# Altium footprint library TruthEar.PcbLib: 24 footprints (part 1 of 2)
Each footprint in its own frame and in the unit in brackets; x right, y up, seen from the top. Pads: shape width x height; smd on the part's side, far side on the other; paste and mask are expansions set on the pad; w line width, h text height; cw(c..) or ccw(c..) is an arc to the next point about the centre after c.
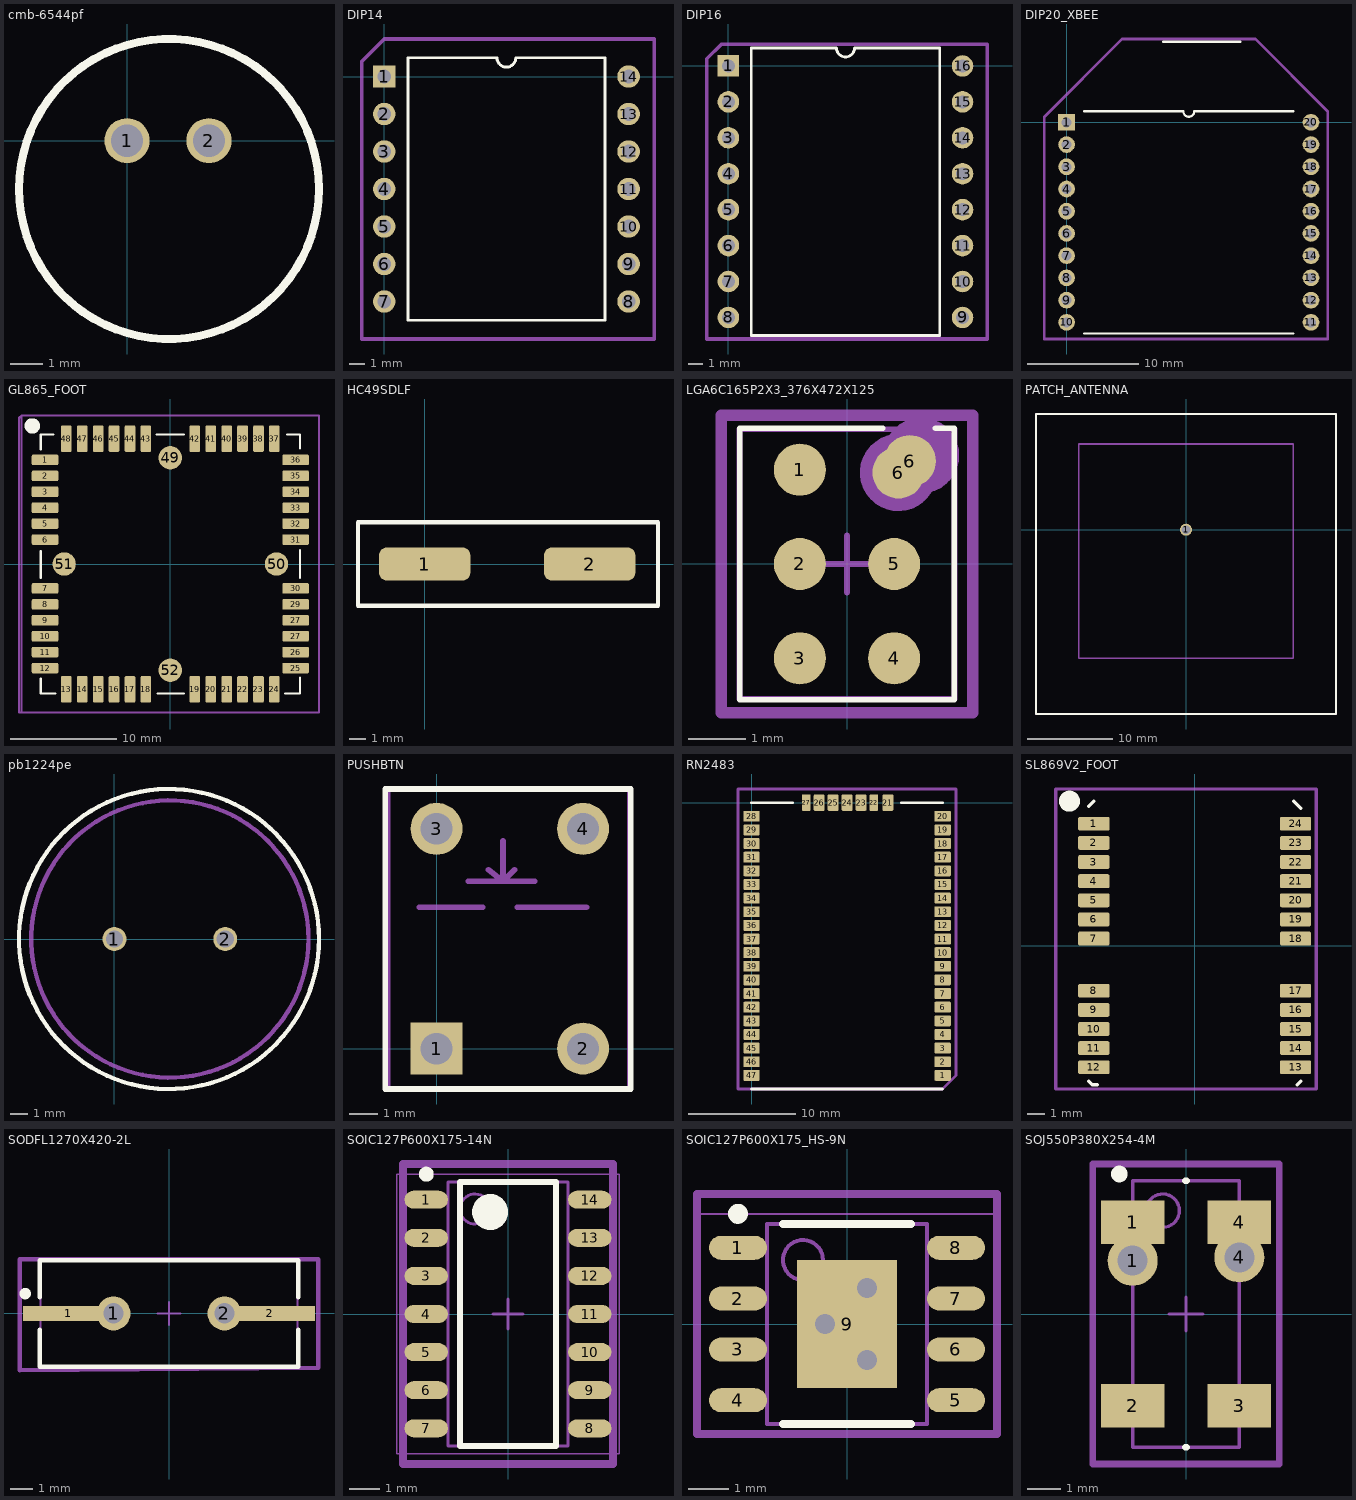
[diagram p0: the footprints below, top view; thin cyan lines are the x and y axes]

## cmb-6544pf [mm]
pads (2):
  round 1.4 hole 1: 1(0,0) 2(2.54,0)
Top Overlay:
  circle w0.254: c1.3,-1.5 r4.653
3D body "cmb-6544pf.stp": height 7, standoff -4.7, extent -3.4,-6.2 6,3.2

## DIP14 [mm]
pads (14):
  rect 1.5x1.5 hole 0.9: 1(0,0)
  round 1.5 hole 0.9: 2(0,-2.5) 3(0,-5) 4(0,-7.5) 5(0,-10) 6(0,-12.5) 7(0,-15) 8(16.29,-15) 9(16.29,-12.5) 10(16.29,-10) 11(16.29,-7.5) 12(16.29,-5) 13(16.29,-2.5) 14(16.29,0)
Top Overlay:
  lines w0.2: 1.585,-16.25 1.585,1.25 7.52,1.25 ccw(c8.145,1.25) 8.77,1.25 14.705,1.25 14.705,-16.25 1.585,-16.25
Mechanical 29:
  lines w0.254: -1.5,-17.5 18,-17.5 18,2.5 0,2.5 -1.5,1 -1.5,-17.5
  text ".Comment" at 8.5,-13.5 h1.52

## DIP16 [mm]
pads (16):
  rect 1.5x1.5 hole 0.9: 1(0,0)
  round 1.5 hole 0.9: 2(0,-2.5) 3(0,-5) 4(0,-7.5) 5(0,-10) 6(0,-12.5) 7(0,-15) 8(0,-17.5) 9(16.29,-17.5) 10(16.29,-15) 11(16.29,-12.5) 12(16.29,-10) 13(16.29,-7.5) 14(16.29,-5) 15(16.29,-2.5) 16(16.29,0)
Top Overlay:
  lines w0.2: 1.585,-18.75 1.585,1.25 7.52,1.25 ccw(c8.145,1.25) 8.77,1.25 14.705,1.25 14.705,-18.75 1.585,-18.75
Mechanical 29:
  lines w0.254: -1.5,-19 -1.5,0.5 -0.5,1.5 18,1.5 18,-19 -1.5,-19
  text ".Comment" at 8.5,-14.5 h1.52

## DIP20_XBEE [mm]
pads (20):
  rect 1.5x1.5 hole 0.9: 1(0,0)
  round 1.5 hole 0.9: 2(0,-2) 3(0,-4) 4(0,-6) 5(0,-8) 6(0,-10) 7(0,-12) 8(0,-14) 9(0,-16) 10(0,-18) 11(22,-18) 12(22,-16) 13(22,-14) 14(22,-12) 15(22,-10) 16(22,-8) 17(22,-6) 18(22,-4) 19(22,-2) 20(22,0)
Top Overlay:
  lines w0.2: 1.585,-19 20.415,-19 ; 1.585,1 10.5,1 ccw(c11,1) 11.5,1 20.415,1
  lines w0.254: 8.725,7.25 15.625,7.25
Mechanical 29:
  lines w0.254: -2,-19.5 -1.5,-19.5 23.5,-19.5 23.5,1 17,7.5 5,7.5 -2,0.5 -2,-19.5
  text ".Comment" at 11.5,-14 h1.52

## GL865_FOOT [mm]
pads (52):
  rrect25% 2.5x1 smd: 1(-11.8,9.8) 2(-11.8,8.3) 3(-11.8,6.8) 4(-11.8,5.3) 5(-11.8,3.8) 6(-11.8,2.3) 7(-11.8,-2.3) 8(-11.8,-3.8) 9(-11.8,-5.3) 10(-11.8,-6.8) 11(-11.8,-8.3) 12(-11.8,-9.8) 25(11.8,-9.8) 26(11.8,-8.3) 27(11.8,-6.8) 27(11.8,-5.3) 29(11.8,-3.8) 30(11.8,-2.3) 31(11.8,2.3) 32(11.8,3.8) 33(11.8,5.3) 34(11.8,6.8) 35(11.8,8.3) 36(11.8,9.8)
  rrect25% 1x2.5 smd: 13(-9.8,-11.8) 14(-8.3,-11.8) 15(-6.8,-11.8) 16(-5.3,-11.8) 17(-3.8,-11.8) 18(-2.3,-11.8) 19(2.3,-11.8) 20(3.8,-11.8) 21(5.3,-11.8) 22(6.8,-11.8) 23(8.3,-11.8) 24(9.8,-11.8) 37(9.8,11.8) 38(8.3,11.8) 39(6.8,11.8) 40(5.3,11.8) 41(3.8,11.8) 42(2.3,11.8) 43(-2.3,11.8) 44(-3.8,11.8) 45(-5.3,11.8) 46(-6.8,11.8) 47(-8.3,11.8) 48(-9.8,11.8)
  round 2.2 smd: 49(0,10) 50(10,0) 51(-10,0) 52(0,-10)
Top Overlay:
  circle w1: c-13,13 r0.224
  lines w0.2: -12.2,-10.8 -12.2,-12.2 -10.8,-12.2 ; -12.2,-1.3 -12.2,1.2 ; -12.2,10.8 -12.2,12.2 -11,12.2 ; -1.3,12.2 1.3,12.2 ; -1.2,-12.2 1.3,-12.2 ; 10.8,-12.2 12.2,-12.2 12.2,-10.7 ; 11,12.2 12.2,12.2 12.2,10.9 ; 12.2,-1.3 12.2,1.3
Mechanical 15:
  lines w0.2: -14,-14 14,-14 14,14 -14,14 -14,-14
Mechanical 29:
  lines w0.2: -14.25,-14 14,-14 14,14 -14,14 -14.25,13.75 -14.25,-14
  text ".Comment" at -8.75,3.5 h0.8
3D body "GL865.STEP": height 2.9, standoff 0.1, extent -12.2,-12.2 12.2,12.2

## HC49SDLF [mm]
pads (2):
  rrect50% 5.5x2 smd: 1(0,0) 2(9.9,0)
Top Overlay:
  lines w0.254: -4,-2.5 14,-2.5 14,2.5 -4,2.5 -4,-2.5

## LGA6C165P2X3_376X472X125 [mm] "LGA, 6-Leads, Body 3,76x4,72mmx1,25mm, Pitch 1,65mm"
height 1.25
pads (7):
  round 0.91 smd: 1(-0.825,1.65) 2(-0.825,0) 3(-0.825,-1.65) 4(0.825,-1.65) 5(0.825,0) 6(0.9,1.6) 6(1.1,1.8)
Top Overlay:
  lines w0.1: 0.625,2.375 -1.875,2.375 -1.875,-2.375 1.875,-2.375 1.875,2.375 1.55,2.375
Mechanical 13:
  lines w0.1: -1.88,-2.36 1.88,-2.36 1.88,2.36 -1.88,2.36 -1.88,-2.36
Mechanical 15:
  lines w0.05: -2.15,-2.625 2.15,-2.625 2.15,2.625 -2.15,2.625 -2.15,-2.625
  lines w0.1: -0.5,0 0.5,0 ; 0,-0.5 0,0.5
Mechanical 29:
  circle w0.5: c0.9,1.6 r0.424
  circle w0.5: c1.3,1.9 r0.412
  lines w0.2: -2.2,-2.6 2.2,-2.6 2.2,2.6 -2.2,2.6 -2.2,-2.6
  text ".Comment" at 0.3,-2.6 h0.8
  text "1" at -1.7,1.2 h0.8
3D body "LGA6C165P2X3_376X472X125.step": height 1.25, standoff 0, extent -1.905,-2.385 1.905,2.385

## PATCH_ANTENNA [mm] "1 pin"
pads (1):
  round 1.4 hole 1: 1(0,0)
Top Overlay:
  lines w0.2: -17.5,-21.5 -17.5,13.5 17.5,13.5 17.5,-21.5 -17.5,-21.5
Mechanical 29:
  lines w0.2: -17.5,-21.5 17.5,-21.5 17.5,13.5 -17.5,13.5 -17.5,-21.5 ; -12.5,-15 12.5,-15 12.5,10 -12.5,10 -12.5,-15
  text ".Comment" at 0.5,3.5 h0.8
3D body "PATCHANTENNA.STEP": height 4.7, standoff -3.3, extent -12.5,-15 12.5,10

## pb1224pe [mm]
pads (2):
  round 1.4 hole 1: 1(0,0) 2(6.5,0)
Top Overlay:
  circle w0.254: c3.2,0 r8.8
Mechanical 29:
  circle w0.254: c3.25,0 r8.132
  text ".Comment" at -2,-3 h1.52

## PUSHBTN [mm]
pads (4):
  rect 1.8x1.8 hole 1.1: 1(0,0)
  round 1.8 hole 1.1: 2(5.08,0) 3(0,7.62) 4(5.08,7.62)
Top Overlay:
  lines w0.2: -1.778,-1.4 -1.778,9 -0.906,9 6.731,9 6.731,-1.4 -1.778,-1.4
Mechanical 29:
  lines w0.2: -0.6,4.9 1.6,4.9 ; 1.1,5.8 3.4,5.8 ; 1.8,6.2 2.3,5.8 ; 2.3,7.2 2.3,5.8 ; 2.7,6.2 2.3,5.8 ; 2.8,4.9 5.2,4.9 ; -1.7,-1.4 6.7,-1.4 6.7,9 -1.7,9 -1.7,-1.4
  text ".Comment" at -0.5,3.5 h0.8

## RN2483 [mil]
pads (47):
  rrect20% 60x40 smd: 1(700.79,-1000) 2(700.79,-950) 3(700.79,-900) 4(700.79,-850) 5(700.79,-800) 6(700.79,-750) 7(700.79,-700) 8(700.79,-650) 9(700.79,-600) 10(700.79,-550) 11(700.79,-500) 12(700.79,-450) 13(700.79,-400) 14(700.79,-350) 15(700.79,-300) 16(700.79,-250) 17(700.79,-200) 18(700.79,-150) 19(700.79,-100) 20(700.79,-50) 28(0,-50) 29(0,-100) 30(0,-150) 31(0,-200) 32(0,-250) 33(0,-300) 34(0,-350) 35(0,-400) 36(0,-450) 37(0,-500) 38(0,-550) 39(0,-600) 40(0,-650) 41(0,-700) 42(0,-750) 43(0,-800) 44(0,-850) 45(0,-900) 46(0,-950) 47(0,-1000)
  rrect20% 40x60 smd: 21(500,0) 23(401.57,0) 24(350.39,0) 25(299.21,0) 26(248.03,0)
  rrect20% 31.5x60 smd: 22(448.82,0) 27(200.79,0)
Top Overlay:
  lines w10: 0,-1050 700,-1050 ; 0,0 150,0 ; 550,0 700,0
Mechanical 29:
  lines w10: -50,-1050 -50,50 750,50 750,-1000 700,-1050 -50,-1050
  text ".Comment" at 350,-700 h60

## SL869V2_FOOT [mm]
pads (24):
  rrect25% 1.8x0.8 smd: 1(-5.8,7) 2(-5.8,5.9) 3(-5.8,4.8) 4(-5.8,3.7) 5(-5.8,2.6) 6(-5.8,1.5) 7(-5.8,0.4) 8(-5.8,-2.6) 9(-5.8,-3.7) 10(-5.8,-4.8) 11(-5.8,-5.9) 12(-5.8,-7) 13(5.8,-7) 14(5.8,-5.9) 15(5.8,-4.8) 16(5.8,-3.7) 17(5.8,-2.6) 18(5.8,0.4) 19(5.8,1.5) 20(5.8,2.6) 21(5.8,3.7) 22(5.8,4.8) 23(5.8,5.9) 24(5.8,7)
Top Overlay:
  circle w1: c-7.2,8.3 r0.1
  lines w0.2: -6.1,-7.8 -5.9,-8 -5.6,-8 ; -6.1,8 -5.8,8.3 ; 5.7,8.3 6.1,7.9 ; 5.9,-8 6.1,-7.8
Mechanical 29:
  lines w0.2: -8,-8.25 -8,-8 -8,9 7,9 7,-8.25 -8,-8.25
  text ".Comment" at -4.25,3.25 h0.8
3D body "SL869V2.STEP": height -0.45, standoff -3.1, extent -6.1,-8 6.1,8

## SODFL1270X420-2L [mm] "SODFL, 2-Leads, Body 4,70x12,70mm, IPC High Density"
height 4.2
pads (4):
  rect 4x0.65 smd: 1(-4.45,0) 2(4.45,0)
  round 1.5 hole 0.9: 1(-2.45,0) 2(2.45,0)
Top Overlay:
  circle w0.25: c-6.35,0.875 r0.125
  lines w0.2: -5.7,-0.725 -5.7,-2.35 5.7,-2.35 5.7,-0.725 ; -5.7,0.725 -5.7,2.35 5.7,2.35 5.7,0.725
Mechanical 13:
  lines w0.1: -5.675,-2.35 -5.675,2.35 5.675,2.35 5.675,-2.35 -5.675,-2.35
Mechanical 15:
  lines w0.05: -6.625,-2.45 -6.625,2.45 6.625,2.45 6.625,-2.45 -6.625,-2.45
  lines w0.1: -0.5,0 0.5,0 ; 0,-0.5 0,0.5
Mechanical 29:
  lines w0.2: -6.6,-2.5 6.6,-2.4 6.6,2.4 -6.6,2.4 -6.6,-2.5
  text ".Comment" at -3.1,1.2 h0.8
3D body "SODFL1270X420-2L.step": height 4.2, standoff 0, extent -6.35,-2.35 6.35,2.35

## SOIC127P600X175-14N [mm] "SOIC, 14-Leads, Body 8,65x3,90mm, Pitch 1,27mm, IPC Medium Density"
height 1.75
pads (14):
  oval 1.45x0.6 smd: 1(-2.725,3.81) 2(-2.725,2.54) 3(-2.725,1.27) 4(-2.725,0) 5(-2.725,-1.27) 6(-2.725,-2.54) 7(-2.725,-3.81) 8(2.725,-3.81) 9(2.725,-2.54) 10(2.725,-1.27) 11(2.725,0) 12(2.725,1.27) 13(2.725,2.54) 14(2.725,3.81)
Top Overlay:
  circle w0.25: c-2.725,4.66 r0.125
  circle w0.6: c-0.6,3.4 r0.3
  lines w0.2: -1.6,-4.4 -1.6,4.4 1.6,4.4 1.6,-4.4 -1.6,-4.4
Mechanical 13:
  circle w0.1: c-1.1,3.5 r0.5
  lines w0.1: -2,-4.4 -2,4.4 2,4.4 2,-4.4 -2,-4.4
Mechanical 15:
  lines w0.05: -3.7,-4.65 -3.7,4.65 3.7,4.65 3.7,-4.65 -3.7,-4.65
  lines w0.1: -0.5,0 0.5,0 ; 0,-0.5 0,0.5
Mechanical 29:
  lines w0.254: -3.5,-5 3.5,-5 3.5,5 -3.5,5 -3.5,-5
  text ".Comment" at 1,-5.5 h1.52
3D body "SOIC127P600X175-14N.step": height 1.75, standoff 0, extent -3,-4.4 3,4.4

## SOIC127P600X175_HS-9N [mm] "SOIC, 8-Leads, Body 4.90x3.90mm, Pitch 1.27mm, Thermal Pad 3.20x2.51mm, IPC Medium Density"
height 1.75
pads (9):
  oval 1.45x0.6 smd: 1(-2.725,1.905) 2(-2.725,0.635) 3(-2.725,-0.635) 4(-2.725,-1.905) 5(2.725,-1.905) 6(2.725,-0.635) 7(2.725,0.635) 8(2.725,1.905)
  rect 2.51x3.2 smd: 9(0,0)
via 0.5,0.9 diameter 1 hole 0.5
via 0.5,-0.9 diameter 1 hole 0.5
via -0.55,0 diameter 1 hole 0.5
Top Overlay:
  circle w0.25: c-2.725,2.755 r0.125
  lines w0.2: -1.6,-2.5 1.6,-2.5 ; -1.6,2.5 1.6,2.5
Mechanical 13:
  circle w0.1: c-1.1,1.6 r0.5
  lines w0.1: -2,-2.5 -2,2.5 2,2.5 2,-2.5 -2,-2.5
Mechanical 15:
  lines w0.05: -3.7,-2.75 -3.7,2.75 3.7,2.75 3.7,-2.75 -3.7,-2.75
  lines w0.1: -0.5,0 0.5,0 ; 0,-0.5 0,0.5
Mechanical 29:
  lines w0.2: -3.75,-2.75 3.75,-2.75 3.75,3.25 -3.75,3.25 -3.75,-2.75
  text ".Comment" at -3.5,0 h0.8
3D body: height 1.75, standoff 0.25, extent -2,-2.5 2,2.5

## SOJ550P380X254-4M [mm] "SOJ, 4-Leads, Body 8,00x3,80mm, Pitch 5,50mm, IPC Low Density"
height 2.54
pads (6):
  round 1.5 hole 0.9: 1(-1.6,1.6) 4(1.6,1.7)
  rect 1.9x1.3 smd: 1(-1.6,2.75) 2(-1.6,-2.75) 3(1.6,-2.75) 4(1.6,2.75)
Top Overlay:
  circle w0.25: c-2,4.2 r0.125
  lines w0.2: -0.025,-4 0.025,-4 ; -0.025,4 0.025,4
Mechanical 13:
  circle w0.1: c-0.7,3.1 r0.5
  lines w0.1: -1.6,-4 1.6,-4 1.6,4 -1.6,4 -1.6,-4
Mechanical 15:
  lines w0.05: -2.8,-4.5 2.8,-4.5 2.8,4.5 -2.8,4.5 -2.8,-4.5
  lines w0.1: -0.5,0 0.5,0 ; 0,-0.5 0,0.5
Mechanical 29:
  lines w0.2: -2.8,-4.5 -2.8,4.5 2.8,4.5 2.8,-4.5 -2.8,-4.5
  text ".Comment" at 0.3,-3.3 h0.8
3D body "SOJ550P380X254-4M.step": height 2.54, standoff 0, extent -2.1,-4 2.1,4